# Altium schematic symbol library QT3CD-32.768KDZY-T.SchLib: 1 symbol
Pins are listed as number, name and electrical type; pins without a type are passive.

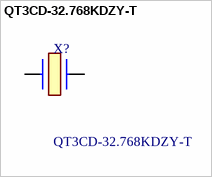
[diagram p0: symbol QT3CD-32.768KDZY-T]

## QT3CD-32.768KDZY-T
designator X?
Resonator: quartz; 32.768kHz; +/-20ppm; 7pF; SMD; 3.2x1.5x0.9mm; Manufacturer_Name: QST; Geometry.Height: 0.9mm; TME Electronic Components Part Number: *; TME Electronic Components Price/Stock: *; Manufacturer_Part_Number: QT3CD-32.768KDZY-T; Datasheet Link: *
footprint QT3CD32768KDZYT
pins: 1, 2